# Altium footprint library 2199119-4.PcbLib: 1 footprints
Each footprint in its own frame and in the unit in brackets; x right, y up, seen from the top. Pads: shape width x height; smd on the part's side, far side on the other; paste and mask are expansions set on the pad; w line width, h text height; cw(c..) or ccw(c..) is an arc to the next point about the centre after c.
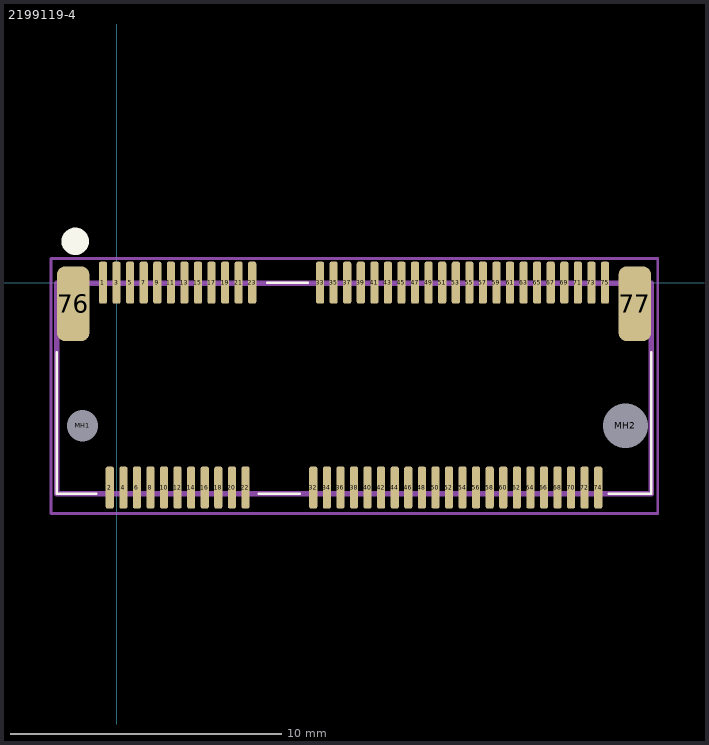
[diagram p0: the footprint, top view; thin cyan lines are the x and y axes]

## 2199119-4 [mm]
pads (71):
  rrect50% 0.3x1.55 smd paste-0.01 mask+0.05: 1(-0.5,0) 2(-0.25,-7.55) 3(0,0) 4(0.25,-7.55) 5(0.5,0) 6(0.75,-7.55) 7(1,0) 8(1.25,-7.55) 9(1.5,0) 10(1.75,-7.55) 11(2,0) 12(2.25,-7.55) 13(2.5,0) 14(2.75,-7.55) 15(3,0) 16(3.25,-7.55) 17(3.5,0) 18(3.75,-7.55) 19(4,0) 20(4.25,-7.55) 21(4.5,0) 22(4.75,-7.55) 23(5,0) 32(7.25,-7.55) 33(7.5,0) 34(7.75,-7.55) 35(8,0) 36(8.25,-7.55) 37(8.5,0) 38(8.75,-7.55) 39(9,0) 40(9.25,-7.55) 41(9.5,0) 42(9.75,-7.55) 43(10,0) 44(10.25,-7.55) 45(10.5,0) 46(10.75,-7.55) 47(11,0) 48(11.25,-7.55) 49(11.5,0) 50(11.75,-7.55) 51(12,0) 52(12.25,-7.55) 53(12.5,0) 54(12.75,-7.55) 55(13,0) 56(13.25,-7.55) 57(13.5,0) 58(13.75,-7.55) 59(14,0) 60(14.25,-7.55) 61(14.5,0) 62(14.75,-7.55) 63(15,0) 64(15.25,-7.55) 65(15.5,0) 66(15.75,-7.55) 67(16,0) 68(16.25,-7.55) 69(16.5,0) 70(16.75,-7.55) 71(17,0) 72(17.25,-7.55) 73(17.5,0) 74(17.75,-7.55) 75(18,0)
  rrect50% 1.2x2.75 smd paste-0.05 mask+0.05: 76(-1.6,-0.776) 77(19.1,-0.776)
  round 0.575 hole 1.15 unplated: MH1(-1.25,-5.275)
  round 0.825 hole 1.65 unplated: MH2(18.75,-5.275)
Top Overlay:
  circle w0.5: c-1.524,1.524 r0.254
  lines w0.1: -2.2,-2.576 -2.2,-7.776 -0.75,-7.776 ; 5.25,-7.776 6.75,-7.776 ; 5.55,0 7.05,0 ; 18.15,-7.776 19.7,-7.776 19.7,-2.576
Top Assembly:
  lines w0.2: -2.2,-7.776 19.7,-7.776 19.7,-0.026 -2.2,-0.026 -2.2,-7.776
Top Courtyard:
  lines w0.1: -2.413,-8.509 19.939,-8.509 19.939,0.889 -2.413,0.889 -2.413,-8.509
3D body "c-2199119-4-c-3d.stp": height 3.09, standoff -0.54, extent -2.2,-8.126 19.7,0.574